# EAGLE library part LT8640 (library Pi3_motor_hat_rev1)
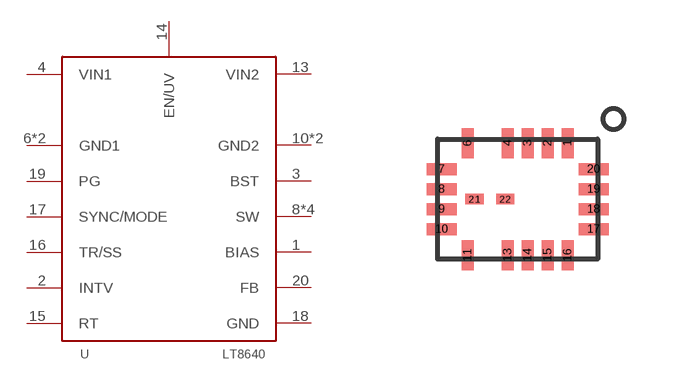
[diagram p1: symbol with the pads of LT8640_FOOT; footprint LT8640_FOOT]

Designator prefix -

## LT8640  [LT8640_FOOT]
1  BIAS
2  INTV
3  BST
4  VIN1
6  GND1
7  GND1
8  SW
9  SW
10  GND2
11  GND2
13  VIN2
14  EN/UV
15  RT
16  TR/SS
17  SYNC/MODE
18  GND
19  PG
20  FB
21  SW
22  SW

## Footprint LT8640_FOOT (pad centres in mm)
smd 0.3 x 0.75: 1 1.25,1.4; 2 0.75,1.4; 3 0.25,1.4; 4 -0.25,1.4; 6 -1.25,1.4; 11 -1.25,-1.4; 13 -0.25,-1.4; 14 0.25,-1.4; 15 0.75,-1.4; 16 1.25,-1.4
smd 0.75 x 0.3: 7 -1.9,0.75; 8 -1.9,0.25; 9 -1.9,-0.25; 10 -1.9,-0.75; 17 1.9,-0.75; 18 1.9,-0.25; 19 1.9,0.25; 20 1.9,0.75
smd 0.45 x 0.27: 21 -1.075,0; 22 -0.305,0